# Altium schematic symbol library SCH - SENSOR - TEMPERATURE - MAXIM MAX31856.SCHLIB: 1 symbol
Pins are listed as number, name and electrical type; pins without a type are passive.

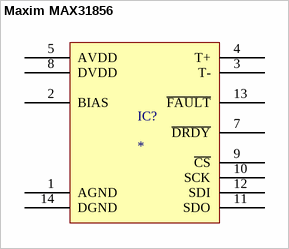
[diagram p0: symbol Maxim MAX31856]

## Maxim MAX31856
designator IC?
pins: 1 AGND, 2 BIAS, 3 T-, 4 T+, 5 AVDD, 7 ~{DRDY}, 8 DVDD, 9 ~{CS}, 10 SCK, 11 SDO, 12 SDI, 13 ~{FAULT}, 14 DGND